# EAGLE library part WE-RJ45-LAN-10/100BT-POE-7499211002A (library untitled)
Order Code 7499211002A Design THT xBase-T 10/100 Base-T PoE Ports 1x1 Application PoE Tab Position DOWN LED (Left-Right) NONE EMI Fingers Yes
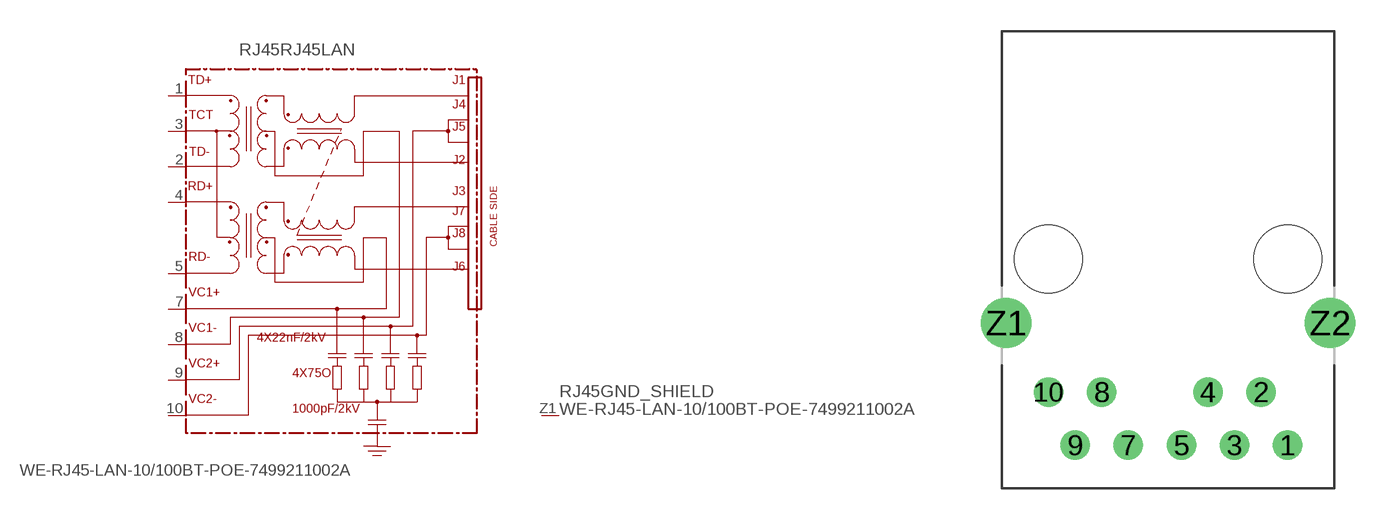
[diagram p142: symbol with the pads of 7499211002A; footprint 7499211002A]

Designator prefix RJ45; gates RJ45LAN=749921-TYPE-2-RVS GND_SHIELD=GNDPIN

## WE-RJ45-LAN-10/100BT-POE-7499211002A  [7499211002A]
1  RJ45LAN:TD+
2  RJ45LAN:TD-
3  RJ45LAN:TCT
4  RJ45LAN:RD+
5  RJ45LAN:RD-
7  RJ45LAN:VC1+  pwr
8  RJ45LAN:VC1-  pwr
9  RJ45LAN:VC2+  pwr
10  RJ45LAN:VC2-  pwr
Z1  GND_SHIELD:P$1  pwr

## Footprint 7499211002A (pad centres in mm)
MAX HEIGHT=13.74mm PORTS----1X1 LED ----NO
drill 0.9 round: 1 5.715,-8.89; 2 4.445,-6.35; 3 3.175,-8.89; 4 1.905,-6.35; 5 0.635,-8.89; 7 -1.905,-8.89; 8 -3.175,-6.35; 9 -4.445,-8.89; 10 -5.715,-6.35
drill 1.6 round: Z1 -7.74,-3.05; Z2 7.74,-3.05
hole 3.25 at 5.715,0
hole 3.25 at -5.715,0